# Altium footprint library ON Semi Small Signal Switching Diodes.PcbLib: 20 footprints (part 2 of 2)
Each footprint in its own frame and in the unit in brackets; x right, y up, seen from the top. Pads: shape width x height; smd on the part's side, far side on the other; paste and mask are expansions set on the pad; w line width, h text height; cw(c..) or ccw(c..) is an arc to the next point about the centre after c.
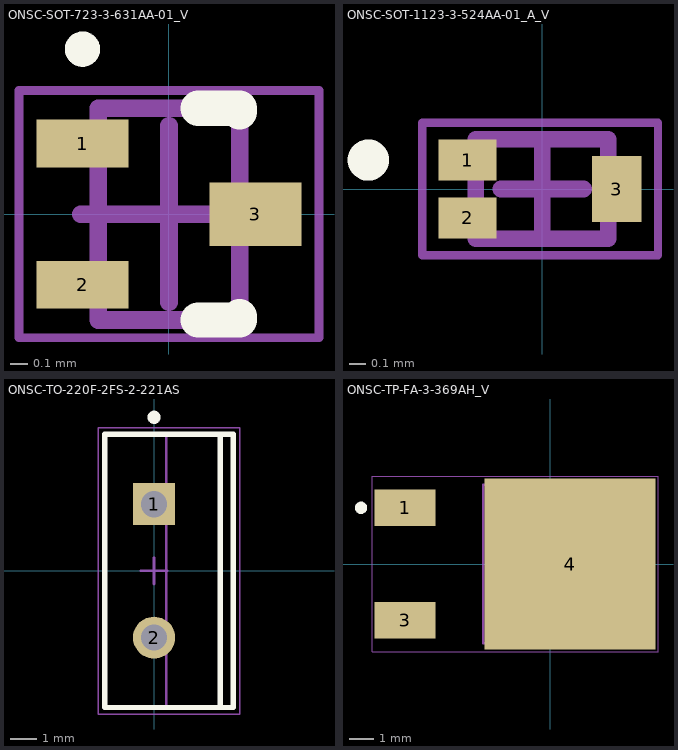
[diagram p1: the footprints below, top view; thin cyan lines are the x and y axes]

## ONSC-SOT-723-3-631AA-01_V [mm] "SOT223, 3-Leads, Body 1.2x0.8mm, Pitch 0.4mm"
height 0.55
pads (3):
  rect 0.52x0.27 smd: 1(-0.49,0.4) 2(-0.49,-0.4)
  rect 0.52x0.36 smd: 3(0.49,0)
Top Overlay:
  circle w0.1: c-0.49,0.935 r0.05
  lines w0.2: 0.165,-0.6 0.4,-0.6 0.4,-0.58 ; 0.165,0.6 0.4,0.6 0.4,0.58
Mechanical 13:
  lines w0.1: -0.4,-0.6 0.4,-0.6 0.4,0.6 -0.4,0.6 -0.4,-0.6
Mechanical 15:
  lines w0.05: -0.85,-0.7 0.85,-0.7 0.85,0.7 -0.85,0.7 -0.85,-0.7
  lines w0.1: -0.5,0 0.5,0 ; 0,-0.5 0,0.5
3D body: height 0.55, standoff 0, extent -0.4,-0.6 0.4,0.6

## ONSC-SOT-1123-3-524AA-01_A_V [mm] "SOT, 3-Leads, Body 0.8x0.6mm, Pitch 0.35mm"
height 0.4
pads (3):
  rect 0.35x0.25 smd: 1(-0.45,0.175) 2(-0.45,-0.175)
  rect 0.3x0.4 smd: 3(0.45,0)
Top Overlay:
  circle w0.125: c-1.05,0.175 r0.062
Mechanical 13:
  lines w0.1: -0.4,-0.3 -0.4,0.3 0.4,0.3 0.4,-0.3 -0.4,-0.3
Mechanical 15:
  lines w0.05: -0.725,-0.4 -0.725,0.4 0.7,0.4 0.7,-0.4 -0.725,-0.4
  lines w0.1: -0.25,0 0.25,0 ; 0,-0.25 0,0.25
3D body: height 0.4, standoff 0, extent -0.4,-0.3 0.4,0.3

## ONSC-TO-220F-2FS-2-221AS [mm] "FM, 2-Leads, Body 10.4x4.9mm, Pitch 5.08mm"
height 19.5
pads (2):
  rect 1.6x1.6 hole 1: 1(0,2.54)
  round 1.6 hole 1: 2(0,-2.54)
Top Overlay:
  circle w0.25: c0,5.85 r0.125
  lines w0.2: 2.52,-5.2 2.52,5.2 ; -1.88,-5.2 -1.88,5.2 3.02,5.2 3.02,-5.2 -1.88,-5.2
Mechanical 13:
  lines w0.1: 0.47,-5.2 0.47,5.2 ; -1.88,-5.2 3.02,-5.2 3.02,5.2 -1.88,5.2 -1.88,-5.2
Mechanical 15:
  lines w0.05: -2.13,-5.45 3.27,-5.45 3.27,5.45 -2.13,5.45 -2.13,-5.45
  lines w0.1: -0.5,0 0.5,0 ; 0,-0.5 0,0.5
3D body: height 19.5, standoff 17.8, extent 0.47,-5.075 3.02,5.075
3D body: height 16.52, standoff 16.2, extent 0.47,-5.075 3.02,-1.6
3D body: height 16.52, standoff 16.2, extent 0.47,1.6 3.02,5.075
3D body: height 16.2, standoff 15.89, extent 0.47,-5.075 3.02,-1.6
3D body: height 16.2, standoff 15.89, extent 0.47,1.6 3.02,5.075
3D body: height 16.82, standoff 16.51, extent 0.47,-5.075 3.02,-1.569
3D body: height 16.82, standoff 16.51, extent 0.47,1.569 3.02,5.075
3D body: height 15.89, standoff 15.59, extent 0.47,-5.075 3.02,-1.569
3D body: height 15.89, standoff 15.59, extent 0.47,1.569 3.02,5.075
3D body: height 17.09, standoff 16.81, extent 0.47,-5.075 3.02,-1.478
3D body: height 17.09, standoff 16.81, extent 0.47,1.478 3.02,5.075
3D body: height 15.59, standoff 15.31, extent 0.47,-5.075 3.02,-1.478
3D body: height 15.59, standoff 15.31, extent 0.47,1.478 3.02,5.075
3D body: height 17.34, standoff 17.09, extent 0.47,-5.075 3.02,-1.33
3D body: height 17.34, standoff 17.09, extent 0.47,1.33 3.02,5.075
3D body: height 15.32, standoff 15.07, extent 0.47,-5.075 3.02,-1.33
3D body: height 15.32, standoff 15.07, extent 0.47,1.33 3.02,5.075
3D body: height 17.54, standoff 17.33, extent 0.47,-5.075 3.02,-1.131
3D body: height 17.54, standoff 17.33, extent 0.47,1.131 3.02,5.075
3D body: height 15.07, standoff 14.87, extent 0.47,-5.075 3.02,-1.131
3D body: height 15.07, standoff 14.87, extent 0.47,1.131 3.02,5.075
3D body: height 17.68, standoff 17.53, extent 0.47,-5.075 3.02,-0.889
3D body: height 17.68, standoff 17.53, extent 0.47,0.889 3.02,5.075
3D body: height 14.87, standoff 14.72, extent 0.47,-5.075 3.02,-0.889
3D body: height 14.87, standoff 14.72, extent 0.47,0.889 3.02,5.075
3D body: height 17.77, standoff 17.68, extent 0.47,-5.075 3.02,-0.612
3D body: height 17.77, standoff 17.68, extent 0.47,0.612 3.02,5.075
3D body: height 14.73, standoff 14.63, extent 0.47,-5.075 3.02,-0.612
3D body: height 14.73, standoff 14.63, extent 0.47,0.612 3.02,5.075
3D body: height 17.8, standoff 17.77, extent 0.47,-5.075 3.02,-0.312
3D body: height 17.8, standoff 17.77, extent 0.47,0.312 3.02,5.075
3D body: height 14.64, standoff 14.6, extent 0.47,-5.075 3.02,-0.312
3D body: height 14.64, standoff 14.6, extent 0.47,0.312 3.02,5.075
3D body: height 14.6, standoff 12.8, extent 0.47,-5.075 3.02,5.075
3D body: height 12.8, standoff 3.03, extent -1.88,-5.2 3.02,5.2
3D body: height 0, standoff -1.6, extent -0.265,-2.94 0.265,-2.14
3D body: height 3.03, standoff 0, extent -0.265,-3.275 0.265,-1.805
3D body: height 0, standoff -1.6, extent -0.265,2.14 0.265,2.94
3D body: height 3.03, standoff 0, extent -0.265,1.805 0.265,3.275

## ONSC-TP-FA-3-369AH_V [mm] "DPAK, 3-Leads, Body 6.5x5.5mm, Pitch 2.3mm"
height 2.5
pads (3):
  rect 2.5x1.5 smd: 1(-5.95,2.3) 3(-5.95,-2.3)
  rect 7x7 smd: 4(0.8,0)
Top Overlay:
  circle w0.25: c-7.75,2.3 r0.125
Mechanical 13:
  lines w0.1: -2.75,-3.25 -2.75,3.25 2.75,3.25 2.75,-3.25 -2.75,-3.25
Mechanical 15:
  lines w0.05: -7.3,-3.6 -7.3,3.6 4.4,3.6 4.4,-3.6 -7.3,-3.6
  lines w0.1: -0.5,0 0.5,0 ; 0,-0.5 0,0.5
3D body: height 2.5, standoff 0, extent -2.75,-3.25 2.75,3.25